# EAGLE library part SPARKFUN_BLUESMIRF (library BMC components)
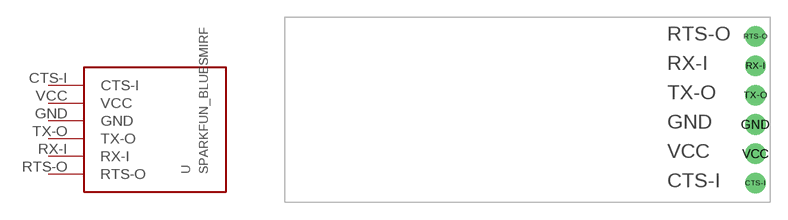
[diagram p22: symbol with the pads of SPARKFUN_BLUESMIRF; footprint SPARKFUN_BLUESMIRF]

Designator prefix -

## SPARKFUN_BLUESMIRF  [SPARKFUN_BLUESMIRF]
CTS-I  CTS-I  in
GND  GND  pwr
RTS-O  RTS-O  out
RX-I  RX-I  in
TX-O  TX-O  out
VCC  VCC  pwr

## Footprint SPARKFUN_BLUESMIRF (pad centres in mm)
drill 1.016 pad 1.778 round: CTS-I 40.64,1.651; GND 40.64,6.731; RTS-O 40.64,14.351; RX-I 40.64,11.811; TX-O 40.64,9.271; VCC 40.64,4.191